# EAGLE library part TLM (library Jeremy_GaN)
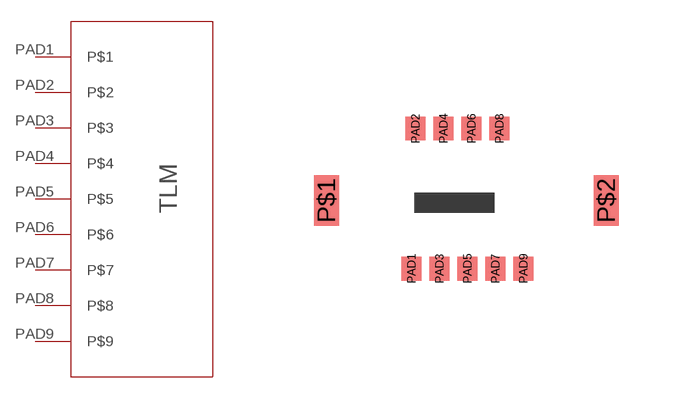
[diagram p4: symbol with the pads of TLM; footprint TLM]

Designator prefix -

## TLM  [TLM]
PAD1  P$1
PAD2  P$2
PAD3  P$3
PAD4  P$4
PAD5  P$5
PAD6  P$6
PAD7  P$7
PAD8  P$8
PAD9  P$9

## Footprint TLM (pad centres in mm)
smd 0.635 x 1.27: P$1 -2.2,0.3; P$2 4.8,0.3
smd 0.5 x 0.6: PAD1 -0.07,-1.4; PAD2 0.03,2.1; PAD3 0.63,-1.4; PAD4 0.73,2.1; PAD5 1.33,-1.4; PAD6 1.43,2.1; PAD7 2.03,-1.4; PAD8 2.13,2.1; PAD9 2.73,-1.4